# EAGLE library part ADS131A04IPBSR (library ADS131A04IPBSR)
24-bit 128-kSPS 4-channel simultaneous-sampling delta-sigma ADC 32-TQFP -40 to 125 Check availability <https://pricing.snapeda.com/parts/ADS131A04IPBSR/Texas%20Instruments/view-part?ref=eda>
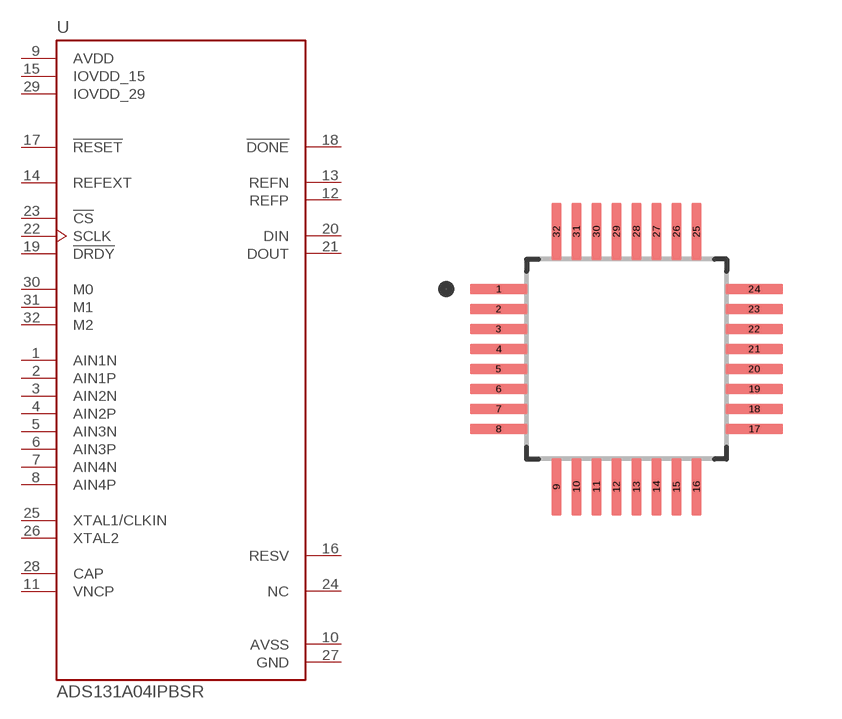
[diagram p0: symbol with the pads of QFP50P700X700X120-32N; footprint QFP50P700X700X120-32N]

Designator prefix U

## ADS131A04IPBSR (Availability: In Stock; Check_prices: https://www.snapeda.com/parts/ADS131A04IPBSR/Texas+Instruments/view-part/?ref=eda; Description: 24-bit 128-kSPS 4-channel simultaneous-sampling delta-sigma ADC; MF: Texas Instruments; MP: ADS131A04IPBSR; Package: TQFP-32 Texas Instruments; Price: None; Purchase-URL: https://www.snapeda.com/api/url_track_click_mouser/?unipart_id=547394&manufacturer=Texas Instruments&part_name=ADS131A04IPBSR&search_term=ads131; SnapEDA_Link: https://www.snapeda.com/parts/ADS131A04IPBSR/Texas+Instruments/view-part/?ref=snap)  [QFP50P700X700X120-32N]
1  AIN1N  in
2  AIN1P  in
3  AIN2N  in
4  AIN2P  in
5  AIN3N  in
6  AIN3P  in
7  AIN4N  in
8  AIN4P  in
9  AVDD  pwr
10  AVSS  pwr
11  VNCP  pas
12  REFP  out
13  REFN  in
14  REFEXT  in
15  IOVDD_15  pwr
16  RESV  pas
17  !RESET  in
18  !DONE  out
19  !DRDY
20  DIN  in
21  DOUT  out
22  SCLK
23  !CS  in
24  NC  nc
25  XTAL1/CLKIN  in
26  XTAL2  out
27  GND  pwr
28  CAP  pas
29  IOVDD_29  pwr
30  M0  in
31  M1  in
32  M2  in

## Footprint QFP50P700X700X120-32N (pad centres in mm)
smd 1.44 x 0.26: 1 -3.195,1.75; 2 -3.195,1.25; 3 -3.195,0.75; 4 -3.195,0.25; 5 -3.195,-0.25; 6 -3.195,-0.75; 7 -3.195,-1.25; 8 -3.195,-1.75; 17 3.195,-1.75; 18 3.195,-1.25; 19 3.195,-0.75; 20 3.195,-0.25; 21 3.195,0.25; 22 3.195,0.75; 23 3.195,1.25; 24 3.195,1.75
smd 0.26 x 1.44: 9 -1.75,-3.195; 10 -1.25,-3.195; 11 -0.75,-3.195; 12 -0.25,-3.195; 13 0.25,-3.195; 14 0.75,-3.195; 15 1.25,-3.195; 16 1.75,-3.195; 25 1.75,3.195; 26 1.25,3.195; 27 0.75,3.195; 28 0.25,3.195; 29 -0.25,3.195; 30 -0.75,3.195; 31 -1.25,3.195; 32 -1.75,3.195